# EAGLE library part SIP32510DT-T1-GE3 (library SamacSys_Parts)
VISHAY - SIP32510DT-T1-GE3 - IC, LOAD SWITCH, 1.1V-5.5V, 3A, TSOT-23 Source: Datasheet <http://www.vishay.com/docs/63577/sip32510.pdf>
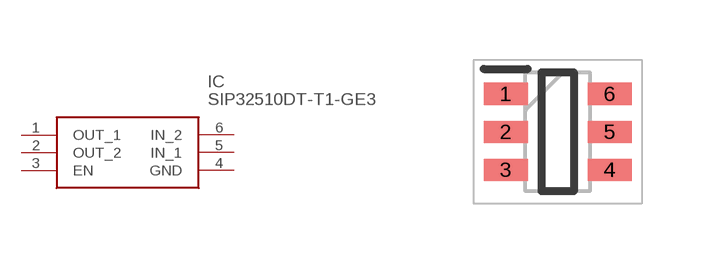
[diagram p0: symbol with the pads of SOT95P284X110-6N; footprint SOT95P284X110-6N]

Designator prefix IC

## SIP32510DT-T1-GE3 (Description: VISHAY - SIP32510DT-T1-GE3 - IC, LOAD SWITCH, 1.1V-5.5V, 3A, TSOT-23; Height: 1.1mm; Manufacturer_Name: Vishay; Manufacturer_Part_Number: SIP32510DT-T1-GE3; Mouser_Part_Number: 78-SIP32510DT-T1-GE3; Mouser_Price-Stock: https://www.mouser.co.uk/ProductDetail/Vishay-Siliconix/SIP32510DT-T1-GE3?qs=vCSEJkzpMViCK9YFQ975Xw%3D%3D)  [SOT95P284X110-6N]
1  OUT_1
2  OUT_2
3  EN
4  GND
5  IN_1
6  IN_2

## Footprint SOT95P284X110-6N (pad centres in mm)
SOT-23 : 5- and 6-Lead
smd 1.1 x 0.55: 1 -1.3,0.95; 2 -1.3,0; 3 -1.3,-0.95; 4 1.3,-0.95; 5 1.3,0; 6 1.3,0.95